# EAGLE library part L34547 (library ads4)
Schott 34547 150uH 0.63A 0.15 Ohm Inductor
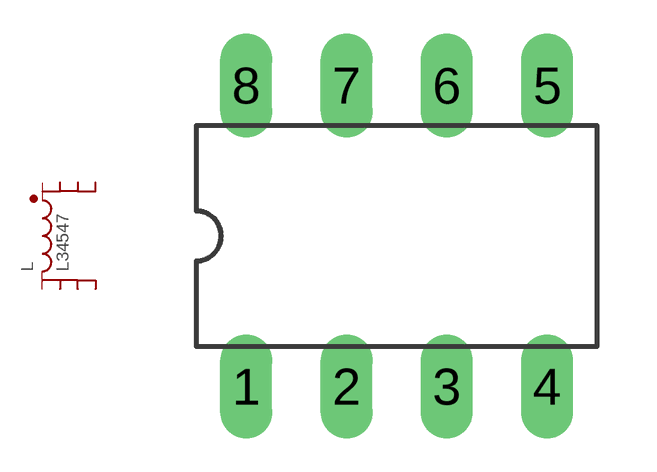
[diagram p1: symbol with the pads of DIL08; footprint DIL08]

Designator prefix L

## L34547EP10THD  [DIL08]
1  1$1  pas
2  1$2  pas
3  1$3  pas
4  1$4  pas
5  2$1  pas
6  2$2  pas
7  2$3  pas
8  2$4  pas

## Footprint DIL08 (pad centres in mm)
8-pin Dual-In Line (copied from 74xx-us.lbr)
drill 0.813 long: 1 -3.81,-3.81; 2 -1.27,-3.81; 3 1.27,-3.81; 4 3.81,-3.81; 5 3.81,3.81; 6 1.27,3.81; 7 -1.27,3.81; 8 -3.81,3.81